# EAGLE library part STEPMOTOR_DRIVER_V0.2 (library modules)
Stepmotor Driver V0.2
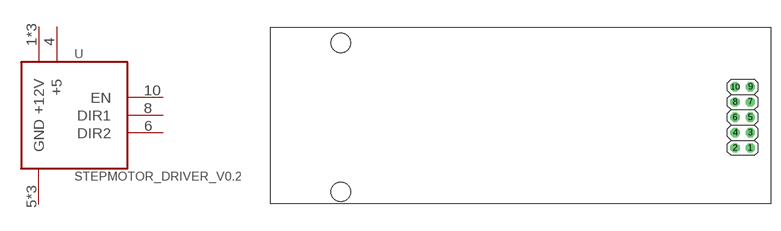
[diagram p0: symbol with the pads of STEPMOTOR_DRIVER_V0.1; footprint STEPMOTOR_DRIVER_V0.1]

Designator prefix -

## STEPMOTOR_DRIVER_V0.2  [STEPMOTOR_DRIVER_V0.1]
1  +12V  pwr
2  +12V  pwr
3  +12V  pwr
4  +5  pwr
5  GND  pwr
6  DIR2  in
7  GND  pwr
8  DIR1  in
9  GND  pwr
10  EN  in

## Footprint STEPMOTOR_DRIVER_V0.1 (pad centres in mm)
drill 1.016 octagon: 1 38.1,-5.08; 2 35.56,-5.08; 3 38.1,-2.54; 4 35.56,-2.54; 5 38.1,0; 6 35.56,0; 7 38.1,2.54; 8 35.56,2.54; 9 38.1,5.08; 10 35.56,5.08
hole 3.2 at -29.845,-12.383
hole 3.2 at -29.845,12.383